# Altium schematic symbol library HC32F460.SCHLIB: 4 symbols
Pins are listed as number, name and electrical type; pins without a type are passive.

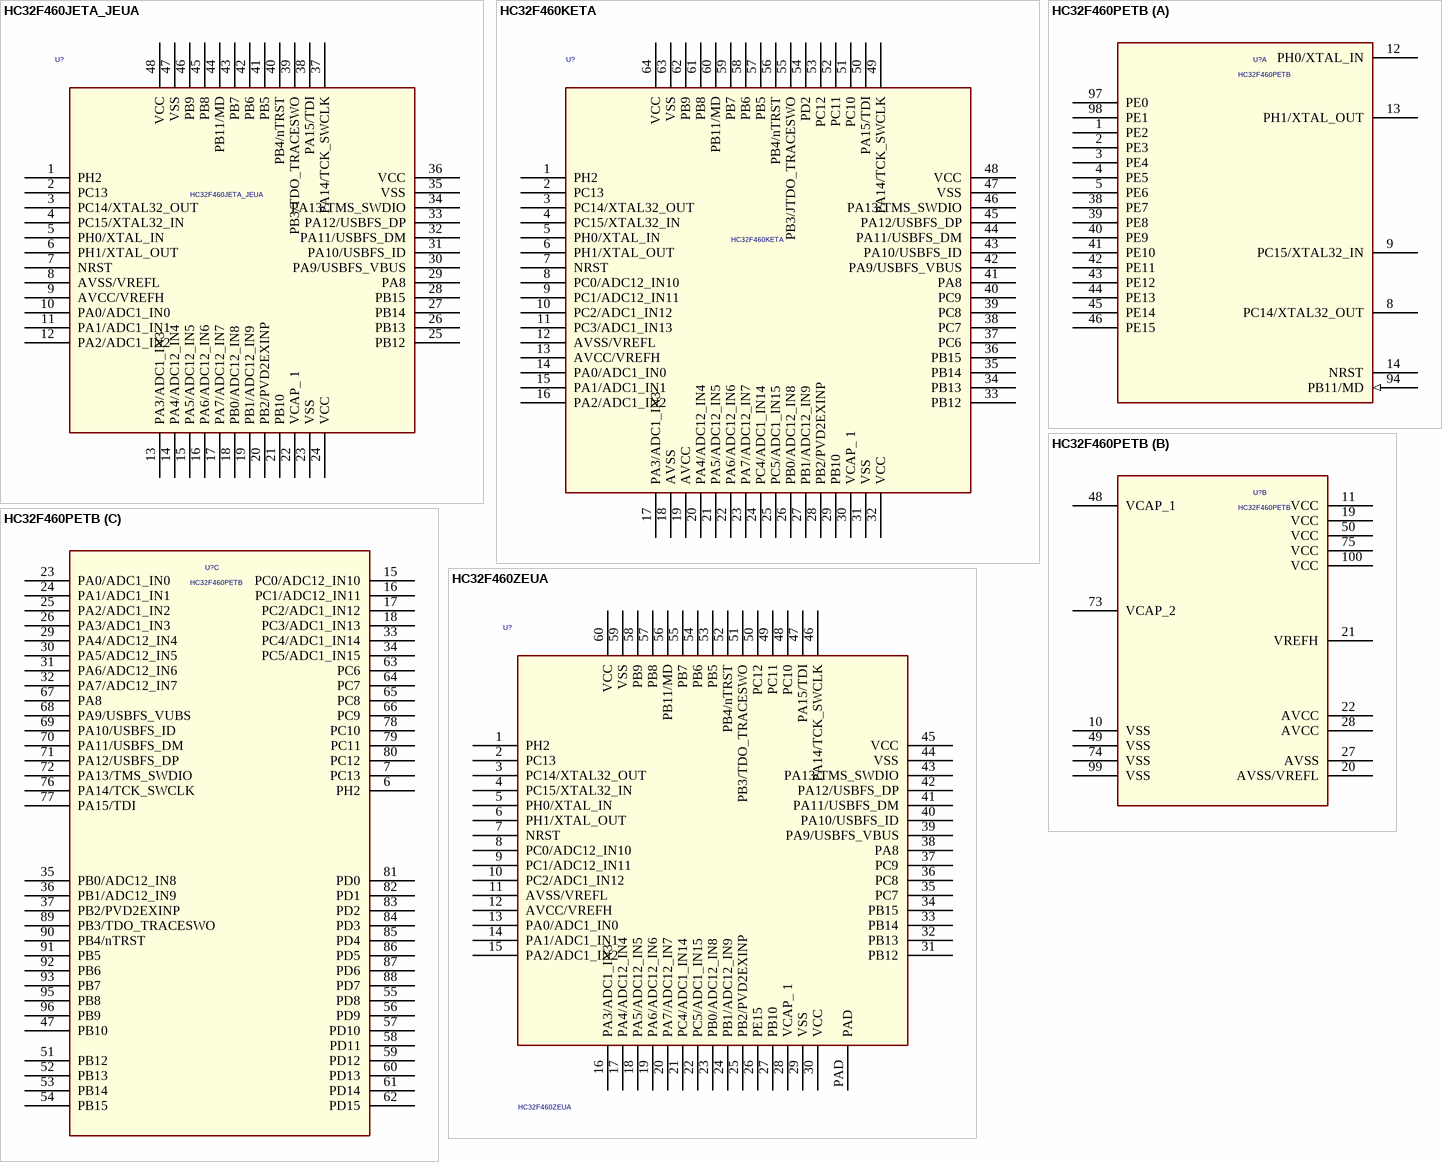
[diagram p0: symbols HC32F460JETA_JEUA to HC32F460ZEUA]

## HC32F460JETA_JEUA
designator U?
footprint LQFP48
pins: 1 PH2, 2 PC13, 3 PC14/XTAL32_OUT, 4 PC15/XTAL32_IN, 5 PH0/XTAL_IN, 6 PH1/XTAL_OUT, 7 NRST, 8 AVSS/VREFL (power), 9 AVCC/VREFH (power), 10 PA0/ADC1_IN0, 11 PA1/ADC1_IN1, 12 PA2/ADC1_IN2, 13 PA3/ADC1_IN3, 14 PA4/ADC12_IN4, 15 PA5/ADC12_IN5, 16 PA6/ADC12_IN6, 17 PA7/ADC12_IN7, 18 PB0/ADC12_IN8, 19 PB1/ADC12_IN9, 20 PB2/PVD2EXINP, 21 PB10, 22 VCAP_ 1 (power), 23 VSS (power), 24 VCC (power), 25 PB12, 26 PB13, 27 PB14, 28 PB15, 29 PA8, 30 PA9/USBFS_VBUS, 31 PA10/USBFS_ID, 32 PA11/USBFS_DM, 33 PA12/USBFS_DP, 34 PA13/TMS_SWDIO, 35 VSS (power), 36 VCC (power), 37 PA14/TCK_SWCLK, 38 PA15/TDI, 39 PB3/TDO_TRACESWO, 40 PB4/nTRST, 41 PB5, 42 PB6, 43 PB7, 44 PB11/MD, 45 PB8, 46 PB9, 47 VSS (power), 48 VCC (power)

## HC32F460KETA
designator U?
footprint LQFP64
pins: 1 PH2, 2 PC13, 3 PC14/XTAL32_OUT, 4 PC15/XTAL32_IN, 5 PH0/XTAL_IN, 6 PH1/XTAL_OUT, 7 NRST, 8 PC0/ADC12_IN10, 9 PC1/ADC12_IN11, 10 PC2/ADC1_IN12, 11 PC3/ADC1_IN13, 12 AVSS/VREFL (power), 13 AVCC/VREFH (power), 14 PA0/ADC1_IN0, 15 PA1/ADC1_IN1, 16 PA2/ADC1_IN2, 17 PA3/ADC1_IN3, 18 AVSS (power), 19 AVCC (power), 20 PA4/ADC12_IN4, 21 PA5/ADC12_IN5, 22 PA6/ADC12_IN6, 23 PA7/ADC12_IN7, 24 PC4/ADC1_IN14, 25 PC5/ADC1_IN15, 26 PB0/ADC12_IN8, 27 PB1/ADC12_IN9, 28 PB2/PVD2EXINP, 29 PB10, 30 VCAP_ 1 (power), 31 VSS (power), 32 VCC (power), 33 PB12, 34 PB13, 35 PB14, 36 PB15, 37 PC6, 38 PC7, 39 PC8, 40 PC9, 41 PA8, 42 PA9/USBFS_VBUS, 43 PA10/USBFS_ID, 44 PA11/USBFS_DM, 45 PA12/USBFS_DP, 46 PA13/TMS_SWDIO, 47 VSS (power), 48 VCC (power), 49 PA14/TCK_SWCLK, 50 PA15/TDI, 51 PC10, 52 PC11, 53 PC12, 54 PD2, 55 PB3/JTDO_TRACESWO, 56 PB4/nTRST, 57 PB5, 58 PB6, 59 PB7, 60 PB11/MD, 61 PB8, 62 PB9, 63 VSS (power), 64 VCC (power)

## HC32F460PETB
designator U?, comment < Value >: HC32F460PETB  (hidden comment: Value)
OriginalSymbolOrigin: (20000,20000); C: Copyright (C) 2016 Accelerated Designs. All rights reserved; Designator: 3; MFG_NAME01: HDSC; Copyright: Copyright (C) 2016 Accelerated Designs. All rights reserved; Manufacturer_Part_Number: HC32F460PETB; PackageName: HC32F460PETB; MFG_PN01: HC32F460PETB
footprint LQFP100-14x14mm
part A pins: 1 PE2, 2 PE3, 3 PE4, 4 PE5, 5 PE6, 8 PC14/XTAL32_OUT, 9 PC15/XTAL32_IN, 12 PH0/XTAL_IN, 13 PH1/XTAL_OUT, 14 NRST, 38 PE7, 39 PE8, 40 PE9, 41 PE10, 42 PE11, 43 PE12, 44 PE13, 45 PE14, 46 PE15, 94 PB11/MD (in), 97 PE0, 98 PE1
part B pins: 10 VSS (power), 11 VCC (power), 19 VCC (power), 20 AVSS/VREFL (power), 21 VREFH (power), 22 AVCC (power), 27 AVSS (power), 28 AVCC (power), 48 VCAP_1 (power), 49 VSS (power), 50 VCC (power), 73 VCAP_2 (power), 74 VSS (power), 75 VCC (power), 99 VSS (power), 100 VCC (power)
part C pins: 6 PH2 (power), 7 PC13, 15 PC0/ADC12_IN10, 16 PC1/ADC12_IN11, 17 PC2/ADC1_IN12, 18 PC3/ADC1_IN13, 23 PA0/ADC1_IN0, 24 PA1/ADC1_IN1, 25 PA2/ADC1_IN2, 26 PA3/ADC1_IN3, 29 PA4/ADC12_IN4, 30 PA5/ADC12_IN5, 31 PA6/ADC12_IN6, 32 PA7/ADC12_IN7, 33 PC4/ADC1_IN14, 34 PC5/ADC1_IN15, 35 PB0/ADC12_IN8, 36 PB1/ADC12_IN9, 37 PB2/PVD2EXINP, 47 PB10, 51 PB12, 52 PB13, 53 PB14, 54 PB15, 55 PD8, 56 PD9, 57 PD10, 58 PD11, 59 PD12, 60 PD13, 61 PD14, 62 PD15, 63 PC6, 64 PC7, 65 PC8, 66 PC9, 67 PA8, 68 PA9/USBFS_VUBS, 69 PA10/USBFS_ID, 70 PA11/USBFS_DM, 71 PA12/USBFS_DP, 72 PA13/TMS_SWDIO, 76 PA14/TCK_SWCLK, 77 PA15/TDI, 78 PC10, 79 PC11, 80 PC12, 81 PD0, 82 PD1, 83 PD2, 84 PD3, 85 PD4, 86 PD5, 87 PD6, 88 PD7, 89 PB3/TDO_TRACESWO, 90 PB4/nTRST, 91 PB5, 92 PB6, 93 PB7, 95 PB8, 96 PB9

## HC32F460ZEUA
designator U?
footprint QFN60
pins: 1 PH2, 2 PC13, 3 PC14/XTAL32_OUT, 4 PC15/XTAL32_IN, 5 PH0/XTAL_IN, 6 PH1/XTAL_OUT, 7 NRST, 8 PC0/ADC12_IN10, 9 PC1/ADC12_IN11, 10 PC2/ADC1_IN12, 11 AVSS/VREFL (power), 12 AVCC/VREFH (power), 13 PA0/ADC1_IN0, 14 PA1/ADC1_IN1, 15 PA2/ADC1_IN2, 16 PA3/ADC1_IN3, 17 PA4/ADC12_IN4, 18 PA5/ADC12_IN5, 19 PA6/ADC12_IN6, 20 PA7/ADC12_IN7, 21 PC4/ADC1_IN14, 22 PC5/ADC1_IN15, 23 PB0/ADC12_IN8, 24 PB1/ADC12_IN9, 25 PB2/PVD2EXINP, 26 PE15, 27 PB10, 28 VCAP_ 1 (power), 29 VSS (power), 30 VCC (power), 31 PB12, 32 PB13, 33 PB14, 34 PB15, 35 PC7, 36 PC8, 37 PC9, 38 PA8, 39 PA9/USBFS_VBUS, 40 PA10/USBFS_ID, 41 PA11/USBFS_DM, 42 PA12/USBFS_DP, 43 PA13/TMS_SWDIO, 44 VSS (power), 45 VCC (power), 46 PA14/TCK_SWCLK, 47 PA15/TDI, 48 PC10, 49 PC11, 50 PC12, 51 PB3/TDO_TRACESWO, 52 PB4/nTRST, 53 PB5, 54 PB6, 55 PB7, 56 PB11/MD, 57 PB8, 58 PB9, 59 VSS (power), 60 VCC (power), PAD (power)